# Altium schematic symbol library ECS-180-S-5P-DN-TR.SchLib: 1 symbol
Pins are listed as number, name and electrical type; pins without a type are passive.

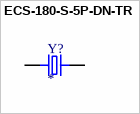
[diagram p0: symbol ECS-180-S-5P-DN-TR]

## ECS-180-S-5P-DN-TR
designator Y?
Crystals 18MHz; MP: ECS-180-S-5P-DN-TR; MF: ECS International; Check_prices: https://www.snapeda.com/parts/ECS-180-S-5P-DN-TR/ECS+International/view-part/?ref=eda; Value: *; Availability: In Stock; Price: None; Package: HC49/US ECS International; SnapEDA_Link: https://www.snapeda.com/parts/ECS-180-S-5P-DN-TR/ECS+International/view-part/?ref=snap; Purchase-URL: https://pricing.snapeda.com/search/part/ECS-180-S-5P-DN-TR/?ref=eda
footprint XTAL_ECS-180-S-5P-DN-TR
pins: 1, 2